# EAGLE library part MPU-6000 (library Jordi)
A six-axis gyro and accelerometer IC
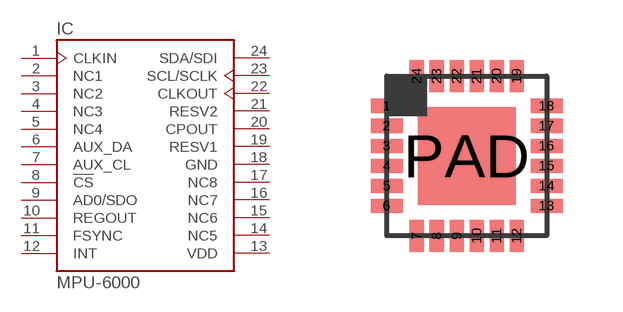
[diagram p4: symbol with the pads of QFN-24; footprint QFN-24]

Designator prefix IC

## MPU-6000QFN  [QFN-24]
1  CLKIN  in
2  NC1
3  NC2
4  NC3
5  NC4
6  AUX_DA
7  AUX_CL
8  !CS
9  AD0/SDO
10  REGOUT  out
11  FSYNC
12  INT
13  VDD  pwr
14  NC5
15  NC6
16  NC7
17  NC8
18  GND  pwr
19  RESV1
20  CPOUT
21  RESV2
22  CLKOUT  out
23  SCL/SCLK
24  SDA/SDI

## Footprint QFN-24 (pad centres in mm)
smd 0.8 x 0.35: 1 -2,1.25; 2 -2,0.75; 3 -2,0.25; 4 -2,-0.25; 5 -2,-0.75; 6 -2,-1.25; 13 2,-1.25; 14 2,-0.75; 15 2,-0.25; 16 2,0.25; 17 2,0.75; 18 2,1.25
smd 0.35 x 0.8: 7 -1.25,-2; 8 -0.75,-2; 9 -0.25,-2; 10 0.25,-2; 11 0.75,-2; 12 1.25,-2; 19 1.25,2; 20 0.75,2; 21 0.25,2; 22 -0.25,2; 23 -0.75,2; 24 -1.25,2
smd 2.45 x 2.45: PAD 0,0